# EAGLE library part MAX14830ETM+_MAX14830ETM+ (library CounterModule)
MAX14830ETM+, Universal Asynchronous Receiver & Transmitter 4-channel RS485 24MBd, 2.35 3.6 V, 48-Pin, TQFN <https://componentsearchengine.com/Images/3/MAX14830ETM%2B.jpg> Source: Datasheet <http://datasheets.maximintegrated.com/en/ds/MAX14830.pdf>
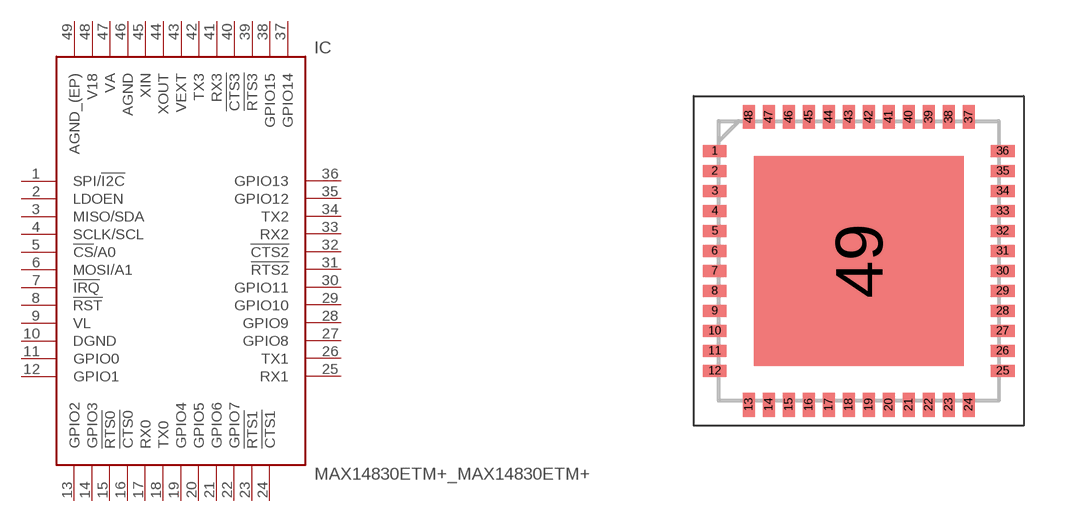
[diagram p1: symbol with the pads of MAX14830ETM+_QFN50P700X700X80-49N; footprint MAX14830ETM+_QFN50P700X700X80-49N]

Designator prefix IC

## MAX14830ETM+_MAX14830ETM+ (DESCRIPTION: MAX14830ETM+, Universal Asynchronous Receiver & Transmitter 4-channel RS485 24MBd, 2.35 3.6 V, 48-Pin, TQFN; HEIGHT: 0.8mm; MANUFACTURER_NAME: Maxim Integrated; MANUFACTURER_PART_NUMBER: MAX14830ETM+; RS_PART_NUMBER: 7860907; SUPPLIER_NAME: RS)  [MAX14830ETM+_QFN50P700X700X80-49N]
1  SPI/!I2C  in
2  LDOEN  in
3  MISO/SDA  in
4  SCLK/SCL  in
5  !CS!/A0  in
6  MOSI/A1  in
7  !IRQ  in
8  !RST  in
9  VL  in
10  DGND  in
11  GPIO0  in
12  GPIO1  in
13  GPIO2  in
14  GPIO3  in
15  !RTS0  in
16  !CTS0  in
17  RX0  in
18  TX0  in
19  GPIO4  in
20  GPIO5  in
21  GPIO6  in
22  GPIO7  in
23  !RTS1  in
24  !CTS1  in
25  RX1  in
26  TX1  in
27  GPIO8  in
28  GPIO9  in
29  GPIO10  in
30  GPIO11  in
31  !RTS2  in
32  !CTS2  in
33  RX2  in
34  TX2  in
35  GPIO12  in
36  GPIO13  in
37  GPIO14  in
38  GPIO15  in
39  !RTS3  in
40  !CTS3  in
41  RX3  in
42  TX3  in
43  VEXT  in
44  XOUT  in
45  XIN  in
46  AGND  in
47  VA  in
48  V18  in
49  AGND_(EP)  in

## Footprint MAX14830ETM+_QFN50P700X700X80-49N (pad centres in mm)
48 TQFN
smd 0.6 x 0.3: 1 -3.6,2.75; 2 -3.6,2.25; 3 -3.6,1.75; 4 -3.6,1.25; 5 -3.6,0.75; 6 -3.6,0.25; 7 -3.6,-0.25; 8 -3.6,-0.75; 9 -3.6,-1.25; 10 -3.6,-1.75; 11 -3.6,-2.25; 12 -3.6,-2.75; 25 3.6,-2.75; 26 3.6,-2.25; 27 3.6,-1.75; 28 3.6,-1.25; 29 3.6,-0.75; 30 3.6,-0.25; 31 3.6,0.25; 32 3.6,0.75; 33 3.6,1.25; 34 3.6,1.75; 35 3.6,2.25; 36 3.6,2.75
smd 0.3 x 0.6: 13 -2.75,-3.6; 14 -2.25,-3.6; 15 -1.75,-3.6; 16 -1.25,-3.6; 17 -0.75,-3.6; 18 -0.25,-3.6; 19 0.25,-3.6; 20 0.75,-3.6; 21 1.25,-3.6; 22 1.75,-3.6; 23 2.25,-3.6; 24 2.75,-3.6; 37 2.75,3.6; 38 2.25,3.6; 39 1.75,3.6; 40 1.25,3.6; 41 0.75,3.6; 42 0.25,3.6; 43 -0.25,3.6; 44 -0.75,3.6; 45 -1.25,3.6; 46 -1.75,3.6; 47 -2.25,3.6; 48 -2.75,3.6
smd 5.25 x 5.25: 49 0,0